# EAGLE library part FTSH-105-01-L-DV-K (library circuit_tree)
IC
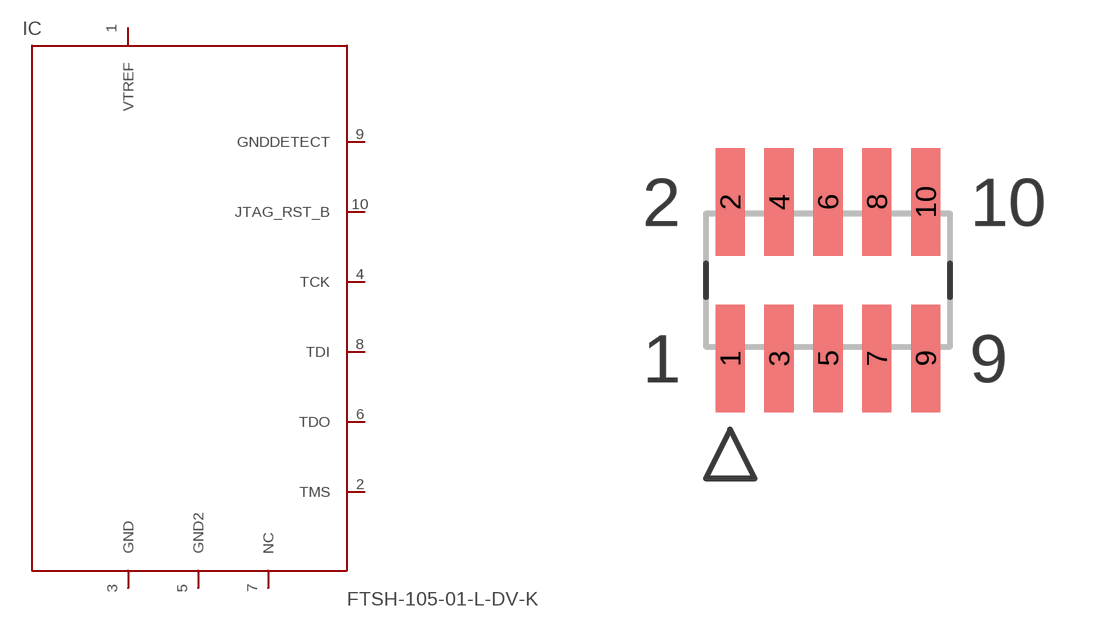
[diagram p6: symbol with the pads of SAMTEC_FTSH-105-01-L-DV-K; footprint SAMTEC_FTSH-105-01-L-DV-K]

Designator prefix IC

## FTSH-105-01-L-DV-K  [SAMTEC_FTSH-105-01-L-DV-K]
1  VTREF  pas
2  TMS  pas
3  GND  pas
4  TCK  pas
5  GND2  pas
6  TDO  pas
7  NC  pas
8  TDI  pas
9  GNDDETECT  pas
10  JTAG_RST_B  pas

## Footprint SAMTEC_FTSH-105-01-L-DV-K (pad centres in mm)
smd 0.762 x 2.794: 1 -2.54,-2.032; 2 -2.54,2.032; 3 -1.27,-2.032; 4 -1.27,2.032; 5 0,-2.032; 6 0,2.032; 7 1.27,-2.032; 8 1.27,2.032; 9 2.54,-2.032; 10 2.54,2.032